# EAGLE library part ICSP_HEADER (library yapo)
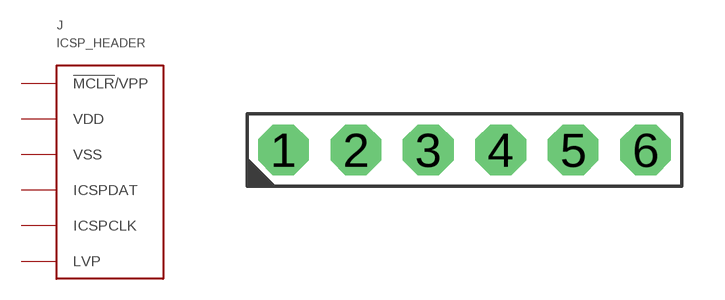
[diagram p5: symbol with the pads of HEADER_6PIN; footprint HEADER_6PIN]

Designator prefix J

## ICSP_HEADER  [HEADER_6PIN]
1  !MCLR!/VPP
2  VDD
3  VSS
4  ICSPDAT
5  ICSPCLK
6  LVP

## Footprint HEADER_6PIN (pad centres in mm)
drill 1 pad 1.778 octagon: 1 -6.35,0; 2 -3.81,0; 3 -1.27,0; 4 1.27,0; 5 3.81,0; 6 6.35,0